# Altium integrated library TI Amplifiers and Linear Special Function Amplifier.IntLib: 708 symbols (part 10 of 47)
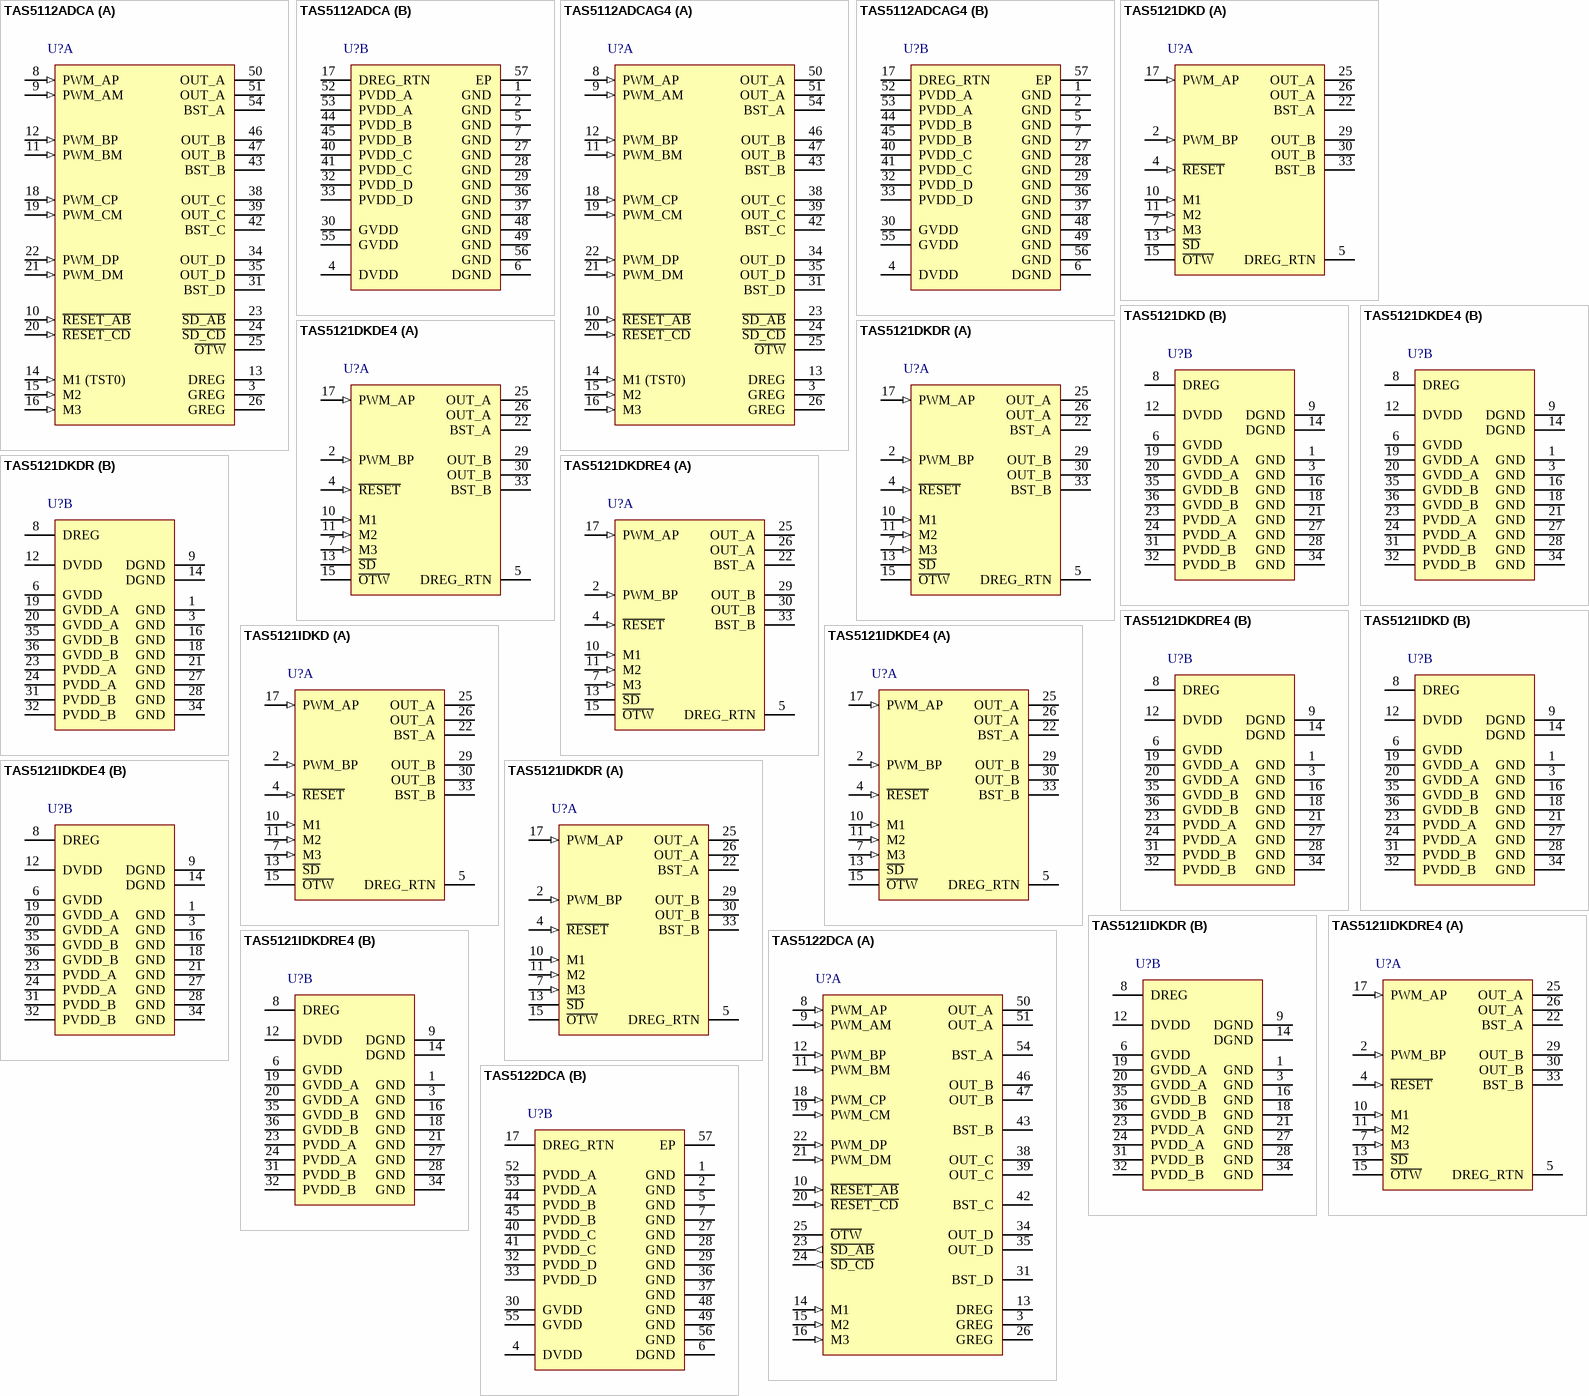
[diagram p48: symbols TAS5112ADCA to TAS5122DCA]

## TAS5121DKDRE4
designator U?
100 W Mono Digital Amplifier Power Stage, 0 to 70 degC, 36-pin SOP (DKD36); Manufacturer: Texas Instruments; PartNumber: TAS5121DKDRE4; Analog Supply Max [V]: 13.2; Analog Supply Min [V]: 10.8; Digital Supply Min [V]: 3; Input Type: PWM; Max. Number of Speaker Outputs: 1; SubFamily: Mid/High-Power Amplifier; DatasheetVersion: SLES086A; PackageVersion: 4204421-2/K, 06/2012; PackageReference: DKD36; PackageDescription: 36-Pin Plastic Small Outline, Body 15.9 x 11 mm, Pitch 0.65 mm; Supplier 1: Digi-Key; Supplier Part Number 1: TAS5121DKDRE4-ND; Supplier 2: Newark; Supplier Part Number 2: 28M7691; Supplier 3: Mouser; Supplier Part Number 3: 595-TAS5121DKDRE4; Mounting Technology: Surface Mount; ComponentLink1Description: Manufacturer URL; ComponentLink1URL: http://www.ti.com/; ComponentLink2Description: Datasheet; ComponentLink2URL: http://www.ti.com/general/docs/lit/getliterature.tsp?genericPartNumber=TAS5121&fileType=pdf; ComponentLink3Description: Package Specification; ComponentLink3URL: http://www.ti.com/lit/ds/symlink/tas5121i.pdf
footprint TI-DKD36_N (SOP, 36-Leads, Body 16x11.1mm, Pitch 0.65mm, IPC Medium Density)
footprint TI-DKD36_L (SOP, 36-Leads, Body 16x11.1mm, Pitch 0.65mm, IPC High Density)
footprint TI-DKD36_M (SOP, 36-Leads, Body 16x11.1mm, Pitch 0.65mm, IPC Low Density)
part A pins: 2 PWM_BP (in) "PWM input signal, half-bridge B", 4 ~{RESET} (in) "Reset signal, active-low", 5 DREG_RTN "Decoupling return pin", 7 M3 (in) "Output-mode selection pin; connect to GND", 10 M1 (in) "Protection-mode selection pin, connect to GND", 11 M2 (in) "Protection-mode selection pin, connect to DREG", 13 ~{SD} (oc) "Shutdown signal for half-bridges A and B (open-drain with internal pullup)", 15 ~{OTW} (hiz) "Overtemperature warning output, open drain with internal pullup resistor, active-low when temperature exceeds 115 degC", 17 PWM_AP (in) "PWM input signal, half-bridge A", 22 BST_A "High-side bootstrap (BST) supply, external resistor and capacitor to OUT_A required", 25 OUT_A (hiz) "Output, half-bridge A", 26 OUT_A (hiz) "Output, half-bridge A", 29 OUT_B (hiz) "Output, half-bridge B", 30 OUT_B (hiz) "Output, half-bridge B", 33 BST_B "High-side bootstrap (BST) supply, external resistor and capacitor to OUT_B required"
part B pins: 1 GND (power) "Power ground, connected to system GND", 3 GND (power) "Power ground, connected to system GND", 6 GVDD (power) "Local GVDD decoupling pin", 8 DREG (power) "Digital supply-voltage regulator-decoupling pin, 1-uF capacitor connected to DREG_RTN", 9 DGND (power) "I/O reference ground", 12 DVDD (power) "I/O reference supply input: 100 ohm to DREG, decoupled to GND, 0.1-uF capacitor connected to GND", 14 DGND (power) "I/O reference ground", 16 GND (power) "Power ground, connected to system GND", 18 GND (power) "Power ground, connected to system GND", 19 GVDD_A (power) "Gate-drive input voltage", 20 GVDD_A (power) "Gate-drive input voltage", 21 GND (power) "Power ground, connected to system GND", 23 PVDD_A (power) "Power supply input for half-bridge A", 24 PVDD_A (power) "Power supply input for half-bridge A", 27 GND (power) "Power ground, connected to system GND", 28 GND (power) "Power ground, connected to system GND", 31 PVDD_B (power) "Power supply input for half-bridge B", 32 PVDD_B (power) "Power supply input for half-bridge B", 34 GND (power) "Power ground, connected to system GND", 35 GVDD_B (power) "Gate-drive input voltage", 36 GVDD_B (power) "Gate-drive input voltage"

## TAS5121IDKD
designator U?
100 W Mono Digital Amplifier Power Stage, -40 to 85 degC, 36-pin SOP (DKD36), Green (RoHS & no Sb/Br); Manufacturer: Texas Instruments; PartNumber: TAS5121IDKD; Analog Supply Max [V]: 13.2; Analog Supply Min [V]: 10.8; Digital Supply Min [V]: 3; Input Type: PWM; Max. Number of Speaker Outputs: 1; SubFamily: Mid/High-Power Amplifier; DatasheetVersion: SLES122; PackageVersion: 4204421-2/K, 06/2012; PackageReference: DKD36; PackageDescription: 36-Pin Plastic Small Outline, Body 15.9 x 11 mm, Pitch 0.65 mm; Supplier 1: Digi-Key; Supplier Part Number 1: 296-17474-5-ND; Supplier 2: Newark; Supplier Part Number 2: 65J6815; Supplier 3: Mouser; Supplier Part Number 3: 595-TAS5121IDKD; Eco-Plan: Green (RoHS & no Sb/Br); Mounting Technology: Surface Mount; ComponentLink1Description: Manufacturer URL; ComponentLink1URL: http://www.ti.com/; ComponentLink2Description: Datasheet; ComponentLink2URL: http://www.ti.com/general/docs/lit/getliterature.tsp?genericPartNumber=TAS5121I&fileType=pdf; ComponentLink3Description: Package Specification; ComponentLink3URL: http://www.ti.com/lit/ds/symlink/tas5121i.pdf
footprint TI-DKD36_N (SOP, 36-Leads, Body 16x11.1mm, Pitch 0.65mm, IPC Medium Density)
footprint TI-DKD36_L (SOP, 36-Leads, Body 16x11.1mm, Pitch 0.65mm, IPC High Density)
footprint TI-DKD36_M (SOP, 36-Leads, Body 16x11.1mm, Pitch 0.65mm, IPC Low Density)
part A pins: 2 PWM_BP (in) "PWM input signal, half-bridge B", 4 ~{RESET} (in) "Reset signal, active-low", 5 DREG_RTN (power) "Decoupling return pin", 7 M3 (in) "Output-mode selection pin; connect to GND", 10 M1 (in) "Protection-mode selection pin, connect to GND", 11 M2 (in) "Protection-mode selection pin, connect to DREG", 13 ~{SD} (oc) "Shutdown signal for half-bridges A and B (open-drain with internal pullup)", 15 ~{OTW} (hiz) "Overtemperature warning output, open-drain with internal pullup, asserted low when temperature exceeds 115 degC", 17 PWM_AP (in) "PWM input signal, half-bridge A", 22 BST_A "High-side bootstrap (BST) supply, external resistor and capacitor to OUT_A required", 25 OUT_A (hiz) "Output, half-bridge A", 26 OUT_A (hiz) "Output, half-bridge A", 29 OUT_B (hiz) "Output, half-bridge B", 30 OUT_B (hiz) "Output, half-bridge B", 33 BST_B "High-side bootstrap (BST) supply, external resistor and capacitor to OUT_B required"
part B pins: 1 GND (power) "Power ground, connected to system GND", 3 GND (power) "Power ground, connected to system GND", 6 GVDD (power) "Local GVDD decoupling pin", 8 DREG (power) "Digital supply-voltage regulator-decoupling pin, 1-uF capacitor connected to DREG_RTN", 9 DGND (power) "I/O reference ground", 12 DVDD (power) "I/O reference supply input: 100 ohm to DREG, decoupled to GND, 0.1-uF capacitor connected to GND", 14 DGND (power) "I/O reference ground", 16 GND (power) "Power ground, connected to system GND", 18 GND (power) "Power ground, connected to system GND", 19 GVDD_A (power) "Gate-drive input voltage", 20 GVDD_A (power) "Gate-drive input voltage", 21 GND (power) "Power ground, connected to system GND", 23 PVDD_A (power) "Power supply input for half-bridge A", 24 PVDD_A (power) "Power supply input for half-bridge A", 27 GND (power) "Power ground, connected to system GND", 28 GND (power) "Power ground, connected to system GND", 31 PVDD_B (power) "Power supply input for half-bridge B", 32 PVDD_B (power) "Power supply input for half-bridge B", 34 GND (power) "Power ground, connected to system GND", 35 GVDD_B (power) "Gate-drive input voltage", 36 GVDD_B (power) "Gate-drive input voltage"

## TAS5121IDKDE4
designator U?
100 W Mono Digital Amplifier Power Stage, -40 to 85 degC, 36-pin SOP (DKD36), Green (RoHS & no Sb/Br); Manufacturer: Texas Instruments; PartNumber: TAS5121IDKDE4; Analog Supply Max [V]: 13.2; Analog Supply Min [V]: 10.8; Digital Supply Min [V]: 3; Input Type: PWM; Max. Number of Speaker Outputs: 1; SubFamily: Mid/High-Power Amplifier; DatasheetVersion: SLES122; PackageVersion: 4204421-2/K, 06/2012; PackageReference: DKD36; PackageDescription: 36-Pin Plastic Small Outline, Body 15.9 x 11 mm, Pitch 0.65 mm; Supplier 1: Digi-Key; Supplier Part Number 1: TAS5121IDKDE4-ND; Supplier 2: Mouser; Supplier Part Number 2: 595-TAS5121IDKDE4; Eco-Plan: Green (RoHS & no Sb/Br); Mounting Technology: Surface Mount; ComponentLink1Description: Manufacturer URL; ComponentLink1URL: http://www.ti.com/; ComponentLink2Description: Datasheet; ComponentLink2URL: http://www.ti.com/general/docs/lit/getliterature.tsp?genericPartNumber=TAS5121I&fileType=pdf; ComponentLink3Description: Package Specification; ComponentLink3URL: http://www.ti.com/lit/ds/symlink/tas5121i.pdf
footprint TI-DKD36_N (SOP, 36-Leads, Body 16x11.1mm, Pitch 0.65mm, IPC Medium Density)
footprint TI-DKD36_L (SOP, 36-Leads, Body 16x11.1mm, Pitch 0.65mm, IPC High Density)
footprint TI-DKD36_M (SOP, 36-Leads, Body 16x11.1mm, Pitch 0.65mm, IPC Low Density)
part A pins: 2 PWM_BP (in) "PWM input signal, half-bridge B", 4 ~{RESET} (in) "Reset signal, active-low", 5 DREG_RTN (power) "Decoupling return pin", 7 M3 (in) "Output-mode selection pin; connect to GND", 10 M1 (in) "Protection-mode selection pin, connect to GND", 11 M2 (in) "Protection-mode selection pin, connect to DREG", 13 ~{SD} (oc) "Shutdown signal for half-bridges A and B (open-drain with internal pullup)", 15 ~{OTW} (hiz) "Overtemperature warning output, open-drain with internal pullup, asserted low when temperature exceeds 115 degC", 17 PWM_AP (in) "PWM input signal, half-bridge A", 22 BST_A "High-side bootstrap (BST) supply, external resistor and capacitor to OUT_A required", 25 OUT_A (hiz) "Output, half-bridge A", 26 OUT_A (hiz) "Output, half-bridge A", 29 OUT_B (hiz) "Output, half-bridge B", 30 OUT_B (hiz) "Output, half-bridge B", 33 BST_B "High-side bootstrap (BST) supply, external resistor and capacitor to OUT_B required"
part B pins: 1 GND (power) "Power ground, connected to system GND", 3 GND (power) "Power ground, connected to system GND", 6 GVDD (power) "Local GVDD decoupling pin", 8 DREG (power) "Digital supply-voltage regulator-decoupling pin, 1-uF capacitor connected to DREG_RTN", 9 DGND (power) "I/O reference ground", 12 DVDD (power) "I/O reference supply input: 100 ohm to DREG, decoupled to GND, 0.1-uF capacitor connected to GND", 14 DGND (power) "I/O reference ground", 16 GND (power) "Power ground, connected to system GND", 18 GND (power) "Power ground, connected to system GND", 19 GVDD_A (power) "Gate-drive input voltage", 20 GVDD_A (power) "Gate-drive input voltage", 21 GND (power) "Power ground, connected to system GND", 23 PVDD_A (power) "Power supply input for half-bridge A", 24 PVDD_A (power) "Power supply input for half-bridge A", 27 GND (power) "Power ground, connected to system GND", 28 GND (power) "Power ground, connected to system GND", 31 PVDD_B (power) "Power supply input for half-bridge B", 32 PVDD_B (power) "Power supply input for half-bridge B", 34 GND (power) "Power ground, connected to system GND", 35 GVDD_B (power) "Gate-drive input voltage", 36 GVDD_B (power) "Gate-drive input voltage"

## TAS5121IDKDR
designator U?
100 W Mono Digital Amplifier Power Stage, -40 to 85 degC, 36-pin SOP (DKD36), Green (RoHS & no Sb/Br); Manufacturer: Texas Instruments; PartNumber: TAS5121IDKDR; Analog Supply Max [V]: 13.2; Analog Supply Min [V]: 10.8; Digital Supply Min [V]: 3; Input Type: PWM; Max. Number of Speaker Outputs: 1; SubFamily: Mid/High-Power Amplifier; DatasheetVersion: SLES122; PackageVersion: 4204421-2/K, 06/2012; PackageReference: DKD36; PackageDescription: 36-Pin Plastic Small Outline, Body 15.9 x 11 mm, Pitch 0.65 mm; Supplier 1: Digi-Key; Supplier Part Number 1: TAS5121IDKDR-ND; Supplier 2: Mouser; Supplier Part Number 2: 595-TAS5121IDKDR; Eco-Plan: Green (RoHS & no Sb/Br); Mounting Technology: Surface Mount; ComponentLink1Description: Manufacturer URL; ComponentLink1URL: http://www.ti.com/; ComponentLink2Description: Datasheet; ComponentLink2URL: http://www.ti.com/general/docs/lit/getliterature.tsp?genericPartNumber=TAS5121I&fileType=pdf; ComponentLink3Description: Package Specification; ComponentLink3URL: http://www.ti.com/lit/ds/symlink/tas5121i.pdf
footprint TI-DKD36_N (SOP, 36-Leads, Body 16x11.1mm, Pitch 0.65mm, IPC Medium Density)
footprint TI-DKD36_L (SOP, 36-Leads, Body 16x11.1mm, Pitch 0.65mm, IPC High Density)
footprint TI-DKD36_M (SOP, 36-Leads, Body 16x11.1mm, Pitch 0.65mm, IPC Low Density)
part A pins: 2 PWM_BP (in) "PWM input signal, half-bridge B", 4 ~{RESET} (in) "Reset signal, active-low", 5 DREG_RTN (power) "Decoupling return pin", 7 M3 (in) "Output-mode selection pin; connect to GND", 10 M1 (in) "Protection-mode selection pin, connect to GND", 11 M2 (in) "Protection-mode selection pin, connect to DREG", 13 ~{SD} (oc) "Shutdown signal for half-bridges A and B (open-drain with internal pullup)", 15 ~{OTW} (hiz) "Overtemperature warning output, open-drain with internal pullup, asserted low when temperature exceeds 115 degC", 17 PWM_AP (in) "PWM input signal, half-bridge A", 22 BST_A "High-side bootstrap (BST) supply, external resistor and capacitor to OUT_A required", 25 OUT_A (hiz) "Output, half-bridge A", 26 OUT_A (hiz) "Output, half-bridge A", 29 OUT_B (hiz) "Output, half-bridge B", 30 OUT_B (hiz) "Output, half-bridge B", 33 BST_B "High-side bootstrap (BST) supply, external resistor and capacitor to OUT_B required"
part B pins: 1 GND (power) "Power ground, connected to system GND", 3 GND (power) "Power ground, connected to system GND", 6 GVDD (power) "Local GVDD decoupling pin", 8 DREG (power) "Digital supply-voltage regulator-decoupling pin, 1-uF capacitor connected to DREG_RTN", 9 DGND (power) "I/O reference ground", 12 DVDD (power) "I/O reference supply input: 100 ohm to DREG, decoupled to GND, 0.1-uF capacitor connected to GND", 14 DGND (power) "I/O reference ground", 16 GND (power) "Power ground, connected to system GND", 18 GND (power) "Power ground, connected to system GND", 19 GVDD_A (power) "Gate-drive input voltage", 20 GVDD_A (power) "Gate-drive input voltage", 21 GND (power) "Power ground, connected to system GND", 23 PVDD_A (power) "Power supply input for half-bridge A", 24 PVDD_A (power) "Power supply input for half-bridge A", 27 GND (power) "Power ground, connected to system GND", 28 GND (power) "Power ground, connected to system GND", 31 PVDD_B (power) "Power supply input for half-bridge B", 32 PVDD_B (power) "Power supply input for half-bridge B", 34 GND (power) "Power ground, connected to system GND", 35 GVDD_B (power) "Gate-drive input voltage", 36 GVDD_B (power) "Gate-drive input voltage"

## TAS5121IDKDRE4
designator U?
100 W Mono Digital Amplifier Power Stage, -40 to 85 degC, 36-pin SOP (DKD36), Green (RoHS & no Sb/Br); Manufacturer: Texas Instruments; PartNumber: TAS5121IDKDRE4; Analog Supply Max [V]: 13.2; Analog Supply Min [V]: 10.8; Digital Supply Min [V]: 3; Input Type: PWM; Max. Number of Speaker Outputs: 1; SubFamily: Mid/High-Power Amplifier; DatasheetVersion: SLES122; PackageVersion: 4204421-2/K, 06/2012; PackageReference: DKD36; PackageDescription: 36-Pin Plastic Small Outline, Body 15.9 x 11 mm, Pitch 0.65 mm; Supplier 1: Digi-Key; Supplier Part Number 1: TAS5121IDKDRE4-ND; Supplier 2: Mouser; Supplier Part Number 2: 595-TAS5121IDKDRE4; Eco-Plan: Green (RoHS & no Sb/Br); Mounting Technology: Surface Mount; ComponentLink1Description: Manufacturer URL; ComponentLink1URL: http://www.ti.com/; ComponentLink2Description: Datasheet; ComponentLink2URL: http://www.ti.com/general/docs/lit/getliterature.tsp?genericPartNumber=TAS5121I&fileType=pdf; ComponentLink3Description: Package Specification; ComponentLink3URL: http://www.ti.com/lit/ds/symlink/tas5121i.pdf
footprint TI-DKD36_N (SOP, 36-Leads, Body 16x11.1mm, Pitch 0.65mm, IPC Medium Density)
footprint TI-DKD36_L (SOP, 36-Leads, Body 16x11.1mm, Pitch 0.65mm, IPC High Density)
footprint TI-DKD36_M (SOP, 36-Leads, Body 16x11.1mm, Pitch 0.65mm, IPC Low Density)
part A pins: 2 PWM_BP (in) "PWM input signal, half-bridge B", 4 ~{RESET} (in) "Reset signal, active-low", 5 DREG_RTN (power) "Decoupling return pin", 7 M3 (in) "Output-mode selection pin; connect to GND", 10 M1 (in) "Protection-mode selection pin, connect to GND", 11 M2 (in) "Protection-mode selection pin, connect to DREG", 13 ~{SD} (oc) "Shutdown signal for half-bridges A and B (open-drain with internal pullup)", 15 ~{OTW} (hiz) "Overtemperature warning output, open-drain with internal pullup, asserted low when temperature exceeds 115 degC", 17 PWM_AP (in) "PWM input signal, half-bridge A", 22 BST_A "High-side bootstrap (BST) supply, external resistor and capacitor to OUT_A required", 25 OUT_A (hiz) "Output, half-bridge A", 26 OUT_A (hiz) "Output, half-bridge A", 29 OUT_B (hiz) "Output, half-bridge B", 30 OUT_B (hiz) "Output, half-bridge B", 33 BST_B "High-side bootstrap (BST) supply, external resistor and capacitor to OUT_B required"
part B pins: 1 GND (power) "Power ground, connected to system GND", 3 GND (power) "Power ground, connected to system GND", 6 GVDD (power) "Local GVDD decoupling pin", 8 DREG (power) "Digital supply-voltage regulator-decoupling pin, 1-uF capacitor connected to DREG_RTN", 9 DGND (power) "I/O reference ground", 12 DVDD (power) "I/O reference supply input: 100 ohm to DREG, decoupled to GND, 0.1-uF capacitor connected to GND", 14 DGND (power) "I/O reference ground", 16 GND (power) "Power ground, connected to system GND", 18 GND (power) "Power ground, connected to system GND", 19 GVDD_A (power) "Gate-drive input voltage", 20 GVDD_A (power) "Gate-drive input voltage", 21 GND (power) "Power ground, connected to system GND", 23 PVDD_A (power) "Power supply input for half-bridge A", 24 PVDD_A (power) "Power supply input for half-bridge A", 27 GND (power) "Power ground, connected to system GND", 28 GND (power) "Power ground, connected to system GND", 31 PVDD_B (power) "Power supply input for half-bridge B", 32 PVDD_B (power) "Power supply input for half-bridge B", 34 GND (power) "Power ground, connected to system GND", 35 GVDD_B (power) "Gate-drive input voltage", 36 GVDD_B (power) "Gate-drive input voltage"

## TAS5122DCA
designator U?
30 W Stereo Digital Amplifier Power Stage, 0 to 70 degC, 56-pin SOP (DCA56), Green (RoHS & no Sb/Br); Manufacturer: Texas Instruments; PartNumber: TAS5122DCA; Analog Supply Max [V]: 25.5; Analog Supply Min [V]: 16; Digital Supply Min [V]: 3; Input Type: PWM; Max. Number of Speaker Outputs: 2; SubFamily: Mid/High-Power Amplifier; DatasheetVersion: SLES088E; PackageVersion: 4073259-3/E, 07/2011; PackageReference: DCA56-7700X3425TP; PackageDescription: 56-Pin Plastic Small Outline, Body 14 x 6.1 mm, Pitch 0.5 mm; Supplier 1: Digi-Key; Supplier Part Number 1: 296-18835-5-ND; Supplier 2: Newark; Supplier Part Number 2: 87H2739; Supplier 3: Mouser; Supplier Part Number 3: 595-TAS5122DCA; Eco-Plan: Green (RoHS & no Sb/Br); Mounting Technology: Surface Mount; Code_JEDEC: MO-153; ComponentLink1Description: Manufacturer URL; ComponentLink1URL: http://www.ti.com/; ComponentLink2Description: Datasheet; ComponentLink2URL: http://www.ti.com/general/docs/lit/getliterature.tsp?genericPartNumber=TAS5122&fileType=pdf; ComponentLink3Description: Package Specification; ComponentLink3URL: http://www.ti.com/litv/pdf/mpdi001b
footprint TI-DCA56-7700X3425TP_N (SOP, 56-Leads, Body 14x6.1mm, Pitch 0.5mm, Thermal Pad 8.2x3.9mm, IPC Medium Density)
footprint TI-DCA56-7700X3425TP_L (SOP, 56-Leads, Body 14x6.1mm, Pitch 0.5mm, Thermal Pad 8.2x3.9mm, IPC High Density)
footprint TI-DCA56-7700X3425TP_M (SOP, 56-Leads, Body 14x6.1mm, Pitch 0.5mm, Thermal Pad 8.2x3.9mm, IPC Low Density)
part A pins: 3 GREG "Gate drive voltage regulator decoupling pin, capacitor to GND", 8 PWM_AP (in) "Input signal (positive), half-bridge A", 9 PWM_AM (in) "Input signal (negative), half-bridge A", 10 ~{RESET_AB} (in) "Reset signal, active low", 11 PWM_BM (in) "Input signal (negative), half-bridge B", 12 PWM_BP (in) "Input signal (positive), half-bridge B", 13 DREG "Digital supply voltage regulator decoupling pin, capacitor connected to GND", 14 M1 (in) "Mode selection pin", 15 M2 (in) "Mode selection pin", 16 M3 (in) "Mode selection pin", 18 PWM_CP (in) "Input signal (positive), half-bridge C", 19 PWM_CM (in) "Input signal (negative), half-bridge C", 20 ~{RESET_CD} (in) "Reset signal, active low", 21 PWM_DM (in) "Input signal (negative), half-bridge D", 22 PWM_DP (in) "Input signal (positive), half-bridge D", 23 ~{SD_AB} (out) "Shutdown signal for half-bridges A and B, active-low", 24 ~{SD_CD} (out) "Shutdown signal for half-bridges C and D, active-low", 25 ~{OTW} (oc) "Overtemperature warning output, open drain with internal pullup resistor", 26 GREG "Gate drive voltage regulator decoupling pin, capacitor to GND", 31 BST_D "HS bootstrap supply (BST), external capacitor to OUT_D required", 34 OUT_D (hiz) "Output, half-bridge D", 35 OUT_D (hiz) "Output, half-bridge D", 38 OUT_C (hiz) "Output, half-bridge C", 39 OUT_C (hiz) "Output, half-bridge C", 42 BST_C "HS bootstrap supply (BST), external capacitor to OUT_C required", 43 BST_B "HS bootstrap supply (BST), external capacitor to OUT_B required", 46 OUT_B (hiz) "Output, half-bridge B", 47 OUT_B (hiz) "Output, half-bridge B", 50 OUT_A (hiz) "Output, half-bridge A", 51 OUT_A (hiz) "Output, half-bridge A", 54 BST_A "HS bootstrap supply (BST), external capacitor to OUT_A required"
part B pins: 1 GND (power) "Power ground", 2 GND (power) "Power ground", 4 DVDD (power) "I/O reference supply input (3.3 V)", 5 GND (power) "Power ground", 6 DGND (power) "Digital I/O reference ground", 7 GND (power) "Power ground", 17 DREG_RTN (power) "Digital supply voltage regulator decoupling return pin", 27 GND (power) "Power ground", 28 GND (power) "Power ground", 29 GND (power) "Power ground", 30 GVDD (power) "Voltage supply to on-chip gate drive and digital supply voltage regulators", 32 PVDD_D (power) "Power supply input for half-bridge D", 33 PVDD_D (power) "Power supply input for half-bridge D", 36 GND (power) "Power ground", 37 GND (power) "Power ground", 40 PVDD_C (power) "Power supply input for half-bridge C", 41 PVDD_C (power) "Power supply input for half-bridge C", 44 PVDD_B (power) "Power supply input for half-bridge B", 45 PVDD_B (power) "Power supply input for half-bridge B", 48 GND (power) "Power ground", 49 GND (power) "Power ground", 52 PVDD_A (power) "Power supply input for half-bridge A", 53 PVDD_A (power) "Power supply input for half-bridge A", 55 GVDD (power) "Voltage supply to on-chip gate drive and digital supply voltage regulators", 56 GND (power) "Power ground", 57 EP

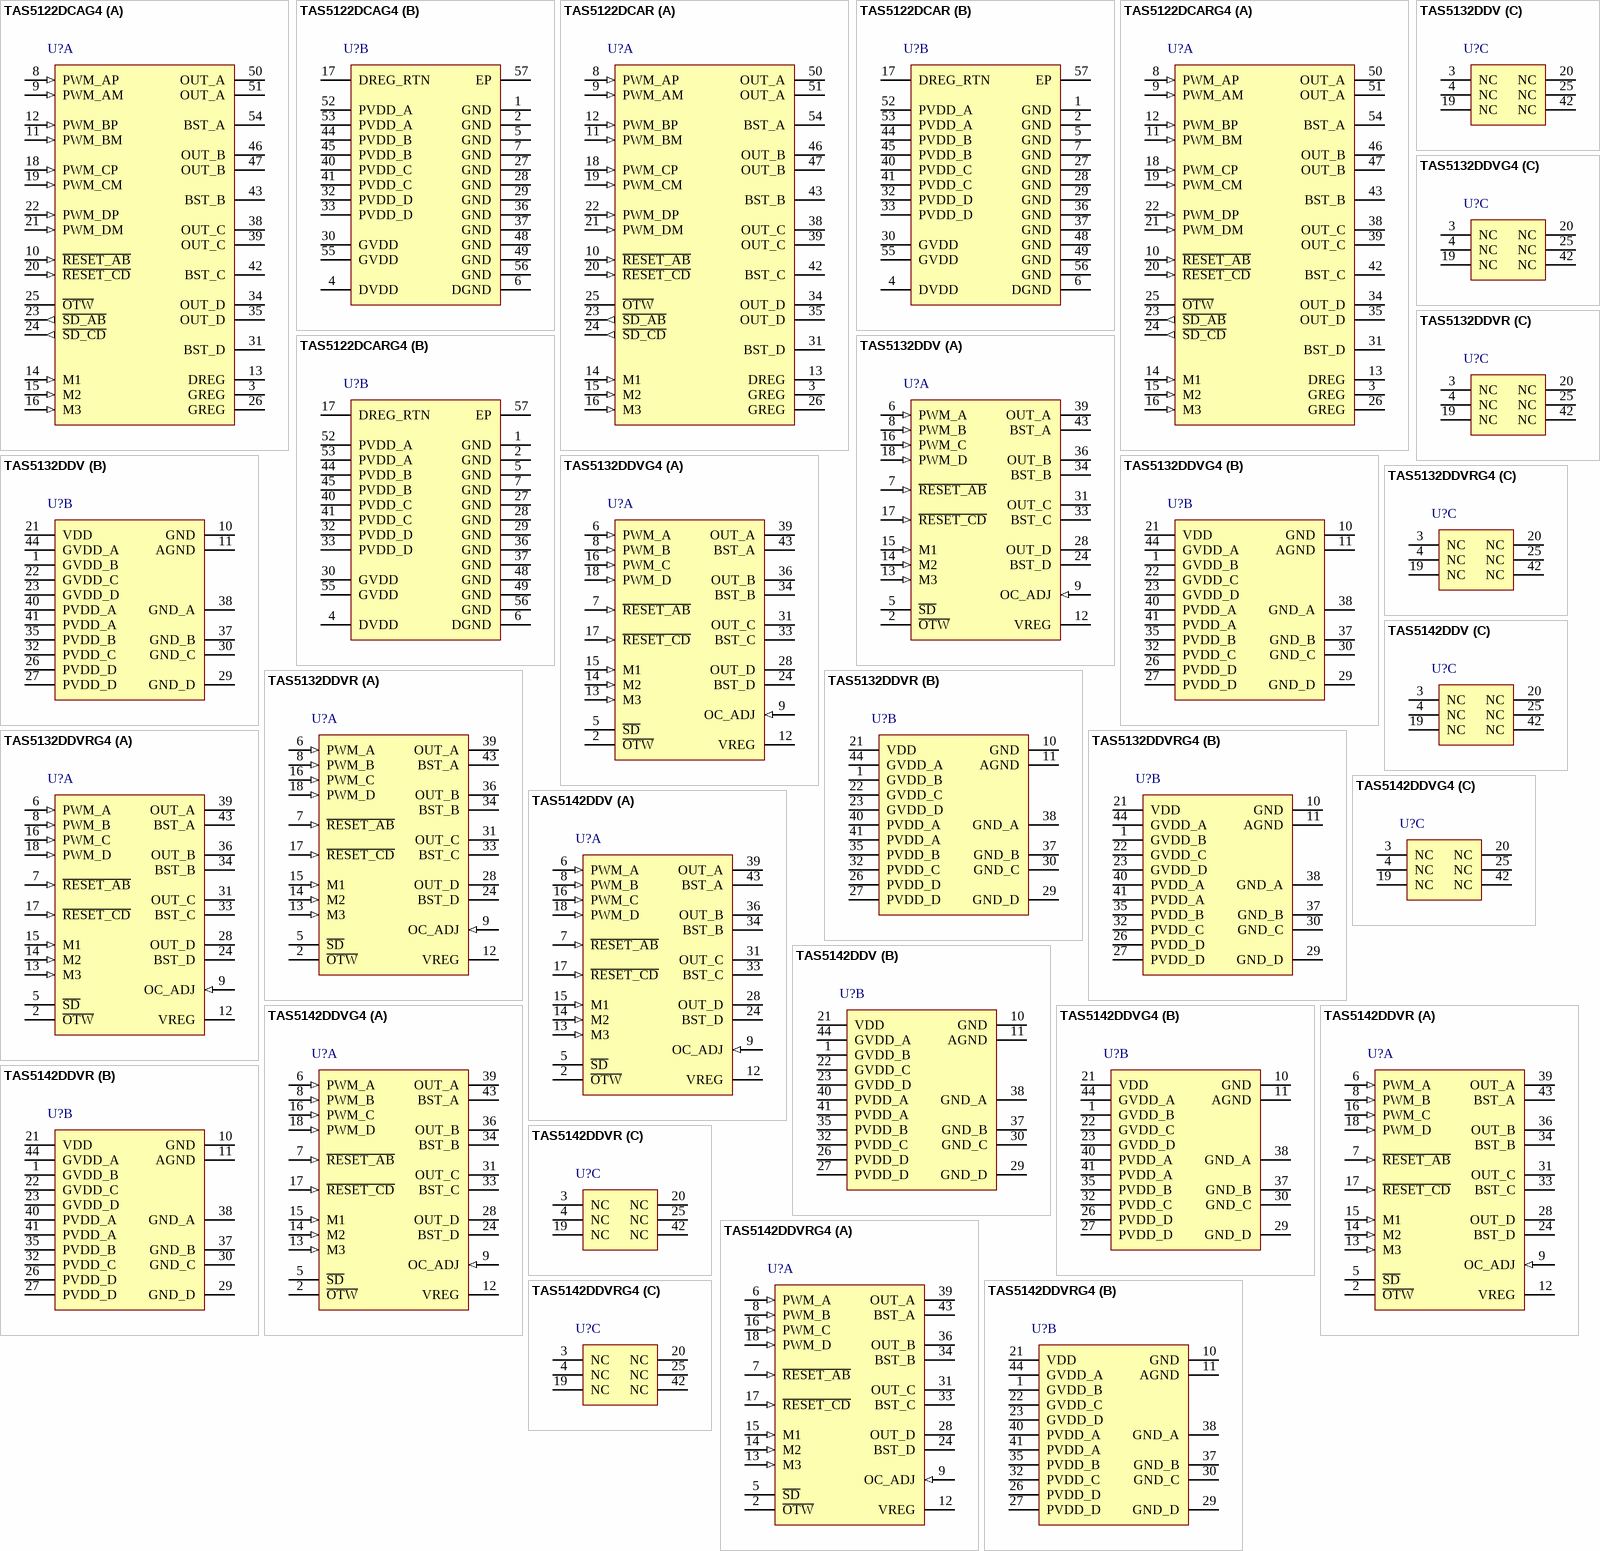
[diagram p9: symbols TAS5122DCAG4 to TAS5142DDVRG4]

## TAS5122DCAG4
designator U?
30 W Stereo Digital Amplifier Power Stage, 0 to 70 degC, 56-pin SOP (DCA56), Green (RoHS & no Sb/Br); Manufacturer: Texas Instruments; PartNumber: TAS5122DCAG4; Analog Supply Max [V]: 25.5; Analog Supply Min [V]: 16; Digital Supply Min [V]: 3; Input Type: PWM; Max. Number of Speaker Outputs: 2; SubFamily: Mid/High-Power Amplifier; DatasheetVersion: SLES088E; PackageVersion: 4073259-3/E, 07/2011; PackageReference: DCA56-7700X3425TP; PackageDescription: 56-Pin Plastic Small Outline, Body 14 x 6.1 mm, Pitch 0.5 mm; Supplier 1: Digi-Key; Supplier Part Number 1: TAS5122DCAG4-ND; Supplier 2: Mouser; Supplier Part Number 2: 595-TAS5122DCAG4; Eco-Plan: Green (RoHS & no Sb/Br); Mounting Technology: Surface Mount; Code_JEDEC: MO-153; ComponentLink1Description: Manufacturer URL; ComponentLink1URL: http://www.ti.com/; ComponentLink2Description: Datasheet; ComponentLink2URL: http://www.ti.com/general/docs/lit/getliterature.tsp?genericPartNumber=TAS5122&fileType=pdf; ComponentLink3Description: Package Specification; ComponentLink3URL: http://www.ti.com/litv/pdf/mpdi001b
footprint TI-DCA56-7700X3425TP_N (SOP, 56-Leads, Body 14x6.1mm, Pitch 0.5mm, Thermal Pad 8.2x3.9mm, IPC Medium Density)
footprint TI-DCA56-7700X3425TP_L (SOP, 56-Leads, Body 14x6.1mm, Pitch 0.5mm, Thermal Pad 8.2x3.9mm, IPC High Density)
footprint TI-DCA56-7700X3425TP_M (SOP, 56-Leads, Body 14x6.1mm, Pitch 0.5mm, Thermal Pad 8.2x3.9mm, IPC Low Density)
part A pins: 3 GREG "Gate drive voltage regulator decoupling pin, capacitor to GND", 8 PWM_AP (in) "Input signal (positive), half-bridge A", 9 PWM_AM (in) "Input signal (negative), half-bridge A", 10 ~{RESET_AB} (in) "Reset signal, active low", 11 PWM_BM (in) "Input signal (negative), half-bridge B", 12 PWM_BP (in) "Input signal (positive), half-bridge B", 13 DREG "Digital supply voltage regulator decoupling pin, capacitor connected to GND", 14 M1 (in) "Mode selection pin", 15 M2 (in) "Mode selection pin", 16 M3 (in) "Mode selection pin", 18 PWM_CP (in) "Input signal (positive), half-bridge C", 19 PWM_CM (in) "Input signal (negative), half-bridge C", 20 ~{RESET_CD} (in) "Reset signal, active low", 21 PWM_DM (in) "Input signal (negative), half-bridge D", 22 PWM_DP (in) "Input signal (positive), half-bridge D", 23 ~{SD_AB} (out) "Shutdown signal for half-bridges A and B, active-low", 24 ~{SD_CD} (out) "Shutdown signal for half-bridges C and D, active-low", 25 ~{OTW} (oc) "Overtemperature warning output, open drain with internal pullup resistor", 26 GREG "Gate drive voltage regulator decoupling pin, capacitor to GND", 31 BST_D "HS bootstrap supply (BST), external capacitor to OUT_D required", 34 OUT_D (hiz) "Output, half-bridge D", 35 OUT_D (hiz) "Output, half-bridge D", 38 OUT_C (hiz) "Output, half-bridge C", 39 OUT_C (hiz) "Output, half-bridge C", 42 BST_C "HS bootstrap supply (BST), external capacitor to OUT_C required", 43 BST_B "HS bootstrap supply (BST), external capacitor to OUT_B required", 46 OUT_B (hiz) "Output, half-bridge B", 47 OUT_B (hiz) "Output, half-bridge B", 50 OUT_A (hiz) "Output, half-bridge A", 51 OUT_A (hiz) "Output, half-bridge A", 54 BST_A "HS bootstrap supply (BST), external capacitor to OUT_A required"
part B pins: 1 GND (power) "Power ground", 2 GND (power) "Power ground", 4 DVDD (power) "I/O reference supply input (3.3 V)", 5 GND (power) "Power ground", 6 DGND (power) "Digital I/O reference ground", 7 GND (power) "Power ground", 17 DREG_RTN (power) "Digital supply voltage regulator decoupling return pin", 27 GND (power) "Power ground", 28 GND (power) "Power ground", 29 GND (power) "Power ground", 30 GVDD (power) "Voltage supply to on-chip gate drive and digital supply voltage regulators", 32 PVDD_D (power) "Power supply input for half-bridge D", 33 PVDD_D (power) "Power supply input for half-bridge D", 36 GND (power) "Power ground", 37 GND (power) "Power ground", 40 PVDD_C (power) "Power supply input for half-bridge C", 41 PVDD_C (power) "Power supply input for half-bridge C", 44 PVDD_B (power) "Power supply input for half-bridge B", 45 PVDD_B (power) "Power supply input for half-bridge B", 48 GND (power) "Power ground", 49 GND (power) "Power ground", 52 PVDD_A (power) "Power supply input for half-bridge A", 53 PVDD_A (power) "Power supply input for half-bridge A", 55 GVDD (power) "Voltage supply to on-chip gate drive and digital supply voltage regulators", 56 GND (power) "Power ground", 57 EP

## TAS5122DCAR
designator U?
30 W Stereo Digital Amplifier Power Stage, 0 to 70 degC, 56-pin SOP (DCA56), Green (RoHS & no Sb/Br); Manufacturer: Texas Instruments; PartNumber: TAS5122DCAR; Analog Supply Max [V]: 25.5; Analog Supply Min [V]: 16; Digital Supply Min [V]: 3; Input Type: PWM; Max. Number of Speaker Outputs: 2; SubFamily: Mid/High-Power Amplifier; DatasheetVersion: SLES088E; PackageVersion: 4073259-3/E, 07/2011; PackageReference: DCA56-7700X3425TP; PackageDescription: 56-Pin Plastic Small Outline, Body 14 x 6.1 mm, Pitch 0.5 mm; Supplier 1: Digi-Key; Supplier Part Number 1: TAS5122DCAR-ND; Supplier 2: Newark; Supplier Part Number 2: 87H2740; Supplier 3: Mouser; Supplier Part Number 3: 595-TAS5122DCAR; Eco-Plan: Green (RoHS & no Sb/Br); Mounting Technology: Surface Mount; Code_JEDEC: MO-153; ComponentLink1Description: Manufacturer URL; ComponentLink1URL: http://www.ti.com/; ComponentLink2Description: Datasheet; ComponentLink2URL: http://www.ti.com/general/docs/lit/getliterature.tsp?genericPartNumber=TAS5122&fileType=pdf; ComponentLink3Description: Package Specification; ComponentLink3URL: http://www.ti.com/litv/pdf/mpdi001b
footprint TI-DCA56-7700X3425TP_N (SOP, 56-Leads, Body 14x6.1mm, Pitch 0.5mm, Thermal Pad 8.2x3.9mm, IPC Medium Density)
footprint TI-DCA56-7700X3425TP_L (SOP, 56-Leads, Body 14x6.1mm, Pitch 0.5mm, Thermal Pad 8.2x3.9mm, IPC High Density)
footprint TI-DCA56-7700X3425TP_M (SOP, 56-Leads, Body 14x6.1mm, Pitch 0.5mm, Thermal Pad 8.2x3.9mm, IPC Low Density)
part A pins: 3 GREG "Gate drive voltage regulator decoupling pin, capacitor to GND", 8 PWM_AP (in) "Input signal (positive), half-bridge A", 9 PWM_AM (in) "Input signal (negative), half-bridge A", 10 ~{RESET_AB} (in) "Reset signal, active low", 11 PWM_BM (in) "Input signal (negative), half-bridge B", 12 PWM_BP (in) "Input signal (positive), half-bridge B", 13 DREG "Digital supply voltage regulator decoupling pin, capacitor connected to GND", 14 M1 (in) "Mode selection pin", 15 M2 (in) "Mode selection pin", 16 M3 (in) "Mode selection pin", 18 PWM_CP (in) "Input signal (positive), half-bridge C", 19 PWM_CM (in) "Input signal (negative), half-bridge C", 20 ~{RESET_CD} (in) "Reset signal, active low", 21 PWM_DM (in) "Input signal (negative), half-bridge D", 22 PWM_DP (in) "Input signal (positive), half-bridge D", 23 ~{SD_AB} (out) "Shutdown signal for half-bridges A and B, active-low", 24 ~{SD_CD} (out) "Shutdown signal for half-bridges C and D, active-low", 25 ~{OTW} (oc) "Overtemperature warning output, open drain with internal pullup resistor", 26 GREG "Gate drive voltage regulator decoupling pin, capacitor to GND", 31 BST_D "HS bootstrap supply (BST), external capacitor to OUT_D required", 34 OUT_D (hiz) "Output, half-bridge D", 35 OUT_D (hiz) "Output, half-bridge D", 38 OUT_C (hiz) "Output, half-bridge C", 39 OUT_C (hiz) "Output, half-bridge C", 42 BST_C "HS bootstrap supply (BST), external capacitor to OUT_C required", 43 BST_B "HS bootstrap supply (BST), external capacitor to OUT_B required", 46 OUT_B (hiz) "Output, half-bridge B", 47 OUT_B (hiz) "Output, half-bridge B", 50 OUT_A (hiz) "Output, half-bridge A", 51 OUT_A (hiz) "Output, half-bridge A", 54 BST_A "HS bootstrap supply (BST), external capacitor to OUT_A required"
part B pins: 1 GND (power) "Power ground", 2 GND (power) "Power ground", 4 DVDD (power) "I/O reference supply input (3.3 V)", 5 GND (power) "Power ground", 6 DGND (power) "Digital I/O reference ground", 7 GND (power) "Power ground", 17 DREG_RTN (power) "Digital supply voltage regulator decoupling return pin", 27 GND (power) "Power ground", 28 GND (power) "Power ground", 29 GND (power) "Power ground", 30 GVDD (power) "Voltage supply to on-chip gate drive and digital supply voltage regulators", 32 PVDD_D (power) "Power supply input for half-bridge D", 33 PVDD_D (power) "Power supply input for half-bridge D", 36 GND (power) "Power ground", 37 GND (power) "Power ground", 40 PVDD_C (power) "Power supply input for half-bridge C", 41 PVDD_C (power) "Power supply input for half-bridge C", 44 PVDD_B (power) "Power supply input for half-bridge B", 45 PVDD_B (power) "Power supply input for half-bridge B", 48 GND (power) "Power ground", 49 GND (power) "Power ground", 52 PVDD_A (power) "Power supply input for half-bridge A", 53 PVDD_A (power) "Power supply input for half-bridge A", 55 GVDD (power) "Voltage supply to on-chip gate drive and digital supply voltage regulators", 56 GND (power) "Power ground", 57 EP

## TAS5122DCARG4
designator U?
30 W Stereo Digital Amplifier Power Stage, 0 to 70 degC, 56-pin SOP (DCA56), Green (RoHS & no Sb/Br); Manufacturer: Texas Instruments; PartNumber: TAS5122DCARG4; Analog Supply Max [V]: 25.5; Analog Supply Min [V]: 16; Digital Supply Min [V]: 3; Input Type: PWM; Max. Number of Speaker Outputs: 2; SubFamily: Mid/High-Power Amplifier; DatasheetVersion: SLES088E; PackageVersion: 4073259-3/E, 07/2011; PackageReference: DCA56-7700X3425TP; PackageDescription: 56-Pin Plastic Small Outline, Body 14 x 6.1 mm, Pitch 0.5 mm; Supplier 1: Digi-Key; Supplier Part Number 1: TAS5122DCARG4-ND; Supplier 2: Newark; Supplier Part Number 2: 71J7896; Supplier 3: Mouser; Supplier Part Number 3: 595-TAS5122DCARG4; Eco-Plan: Green (RoHS & no Sb/Br); Mounting Technology: Surface Mount; Code_JEDEC: MO-153; ComponentLink1Description: Manufacturer URL; ComponentLink1URL: http://www.ti.com/; ComponentLink2Description: Datasheet; ComponentLink2URL: http://www.ti.com/general/docs/lit/getliterature.tsp?genericPartNumber=TAS5122&fileType=pdf; ComponentLink3Description: Package Specification; ComponentLink3URL: http://www.ti.com/litv/pdf/mpdi001b
footprint TI-DCA56-7700X3425TP_N (SOP, 56-Leads, Body 14x6.1mm, Pitch 0.5mm, Thermal Pad 8.2x3.9mm, IPC Medium Density)
footprint TI-DCA56-7700X3425TP_L (SOP, 56-Leads, Body 14x6.1mm, Pitch 0.5mm, Thermal Pad 8.2x3.9mm, IPC High Density)
footprint TI-DCA56-7700X3425TP_M (SOP, 56-Leads, Body 14x6.1mm, Pitch 0.5mm, Thermal Pad 8.2x3.9mm, IPC Low Density)
part A pins: 3 GREG "Gate drive voltage regulator decoupling pin, capacitor to GND", 8 PWM_AP (in) "Input signal (positive), half-bridge A", 9 PWM_AM (in) "Input signal (negative), half-bridge A", 10 ~{RESET_AB} (in) "Reset signal, active low", 11 PWM_BM (in) "Input signal (negative), half-bridge B", 12 PWM_BP (in) "Input signal (positive), half-bridge B", 13 DREG "Digital supply voltage regulator decoupling pin, capacitor connected to GND", 14 M1 (in) "Mode selection pin", 15 M2 (in) "Mode selection pin", 16 M3 (in) "Mode selection pin", 18 PWM_CP (in) "Input signal (positive), half-bridge C", 19 PWM_CM (in) "Input signal (negative), half-bridge C", 20 ~{RESET_CD} (in) "Reset signal, active low", 21 PWM_DM (in) "Input signal (negative), half-bridge D", 22 PWM_DP (in) "Input signal (positive), half-bridge D", 23 ~{SD_AB} (out) "Shutdown signal for half-bridges A and B, active-low", 24 ~{SD_CD} (out) "Shutdown signal for half-bridges C and D, active-low", 25 ~{OTW} (oc) "Overtemperature warning output, open drain with internal pullup resistor", 26 GREG "Gate drive voltage regulator decoupling pin, capacitor to GND", 31 BST_D "HS bootstrap supply (BST), external capacitor to OUT_D required", 34 OUT_D (hiz) "Output, half-bridge D", 35 OUT_D (hiz) "Output, half-bridge D", 38 OUT_C (hiz) "Output, half-bridge C", 39 OUT_C (hiz) "Output, half-bridge C", 42 BST_C "HS bootstrap supply (BST), external capacitor to OUT_C required", 43 BST_B "HS bootstrap supply (BST), external capacitor to OUT_B required", 46 OUT_B (hiz) "Output, half-bridge B", 47 OUT_B (hiz) "Output, half-bridge B", 50 OUT_A (hiz) "Output, half-bridge A", 51 OUT_A (hiz) "Output, half-bridge A", 54 BST_A "HS bootstrap supply (BST), external capacitor to OUT_A required"
part B pins: 1 GND (power) "Power ground", 2 GND (power) "Power ground", 4 DVDD (power) "I/O reference supply input (3.3 V)", 5 GND (power) "Power ground", 6 DGND (power) "Digital I/O reference ground", 7 GND (power) "Power ground", 17 DREG_RTN (power) "Digital supply voltage regulator decoupling return pin", 27 GND (power) "Power ground", 28 GND (power) "Power ground", 29 GND (power) "Power ground", 30 GVDD (power) "Voltage supply to on-chip gate drive and digital supply voltage regulators", 32 PVDD_D (power) "Power supply input for half-bridge D", 33 PVDD_D (power) "Power supply input for half-bridge D", 36 GND (power) "Power ground", 37 GND (power) "Power ground", 40 PVDD_C (power) "Power supply input for half-bridge C", 41 PVDD_C (power) "Power supply input for half-bridge C", 44 PVDD_B (power) "Power supply input for half-bridge B", 45 PVDD_B (power) "Power supply input for half-bridge B", 48 GND (power) "Power ground", 49 GND (power) "Power ground", 52 PVDD_A (power) "Power supply input for half-bridge A", 53 PVDD_A (power) "Power supply input for half-bridge A", 55 GVDD (power) "Voltage supply to on-chip gate drive and digital supply voltage regulators", 56 GND (power) "Power ground", 57 EP

## TAS5132DDV
designator U?
20 W Stereo Digital Amplifier Power Stage, 0 to 70 degC, 44-pin SOP (TDDV44), Green (RoHS & no Sb/Br); Manufacturer: Texas Instruments; PartNumber: TAS5132DDV; Analog Supply Max [V]: 13.2; Analog Supply Min [V]: 10.8; Input Type: PWM; Max. Number of Speaker Outputs: 4; SubFamily: Mid/High-Power Amplifier; DatasheetVersion: SLES190; PackageVersion: 4206011/G, 06/2011; PackageReference: TDDV44-5375X2375TP; PackageDescription: 44-Pin Plastic Small Outline, Body 6.1 x 14 mm, Pitch 0.635 mm; Supplier 1: Digi-Key; Supplier Part Number 1: 296-21414-5-ND; Supplier 2: Newark; Supplier Part Number 2: 27M0859; Supplier 3: Mouser; Supplier Part Number 3: 595-TAS5132DDV; Eco-Plan: Green (RoHS & no Sb/Br); Mounting Technology: Surface Mount; ComponentLink1Description: Manufacturer URL; ComponentLink1URL: http://www.ti.com/; ComponentLink2Description: Datasheet; ComponentLink2URL: http://www.ti.com/general/docs/lit/getliterature.tsp?genericPartNumber=TAS5132&fileType=pdf; ComponentLink3Description: Package Specification; ComponentLink3URL: http://www.ti.com/lit/ds/symlink/tas5132.pdf
footprint TI-DDV44-5375X2375TP_N (SOP, 44-Leads, Body 14x6.1mm, Pitch 0.635mm, Thermal Pad 5.7x2.7mm, IPC Medium Density)
footprint TI-DDV44-5375X2375TP_L (SOP, 44-Leads, Body 14x6.1mm, Pitch 0.635mm, Thermal Pad 5.7x2.7mm, IPC High Density)
footprint TI-DDV44-5375X2375TP_M (SOP, 44-Leads, Body 14x6.1mm, Pitch 0.635mm, Thermal Pad 5.7x2.7mm, IPC Low Density)
part A pins: 2 ~{OTW} (oc) "Overtemperature warning signal, open-drain, active-low", 5 ~{SD} (oc) "Shutdown signal, open-drain, active-low", 6 PWM_A (in) "Input signal for half-bridge A", 7 ~{RESET_AB} (in) "Reset signal for half-bridge A and half-bridge B, active-low", 8 PWM_B (in) "Input signal for half-bridge B", 9 OC_ADJ (in) "Analog overcurrent programming pin requires resistor to ground", 12 VREG "Digital regulator supply filter pin requires 0.1-uFcapacitor to AGND.", 13 M3 (in) "Mode selection pin", 14 M2 (in) "Mode selection pin", 15 M1 (in) "Mode selection pin", 16 PWM_C (in) "Input signal for half-bridge C", 17 ~{RESET_CD} (in) "Reset signal for half-bridge C and half-bridge D, active-low", 18 PWM_D (in) "Input signal for half-bridge D", 24 BST_D "HS bootstrap supply (BST), external capacitor to OUT_D required", 28 OUT_D (hiz) "Output, half-bridge D", 31 OUT_C (hiz) "Output, half-bridge C", 33 BST_C "HS bootstrap supply (BST), external capacitor to OUT_C required", 34 BST_B "HS bootstrap supply (BST), external capacitor to OUT_B required", 36 OUT_B (hiz) "Output, half-bridge B", 39 OUT_A (hiz) "Output, half-bridge A", 43 BST_A "HS bootstrap supply (BST), external capacitor to OUT_A required"
part B pins: 1 GVDD_B (power) "Gate-drive voltage supply requires 0.1-uFcapacitor to AGND", 10 GND (power) "Ground", 11 AGND (power) "Analog ground", 21 VDD (power) "Power supply for digital voltage regulator requires 0.1-uFcapacitor to GND", 22 GVDD_C (power) "Gate-drive voltage supply requires 0.1-uFcapacitor to AGND", 23 GVDD_D (power) "Gate-drive voltage supply requires 0.1-uFcapacitor to AGND", 26 PVDD_D (power) "Power supply input for half-bridge D requires close decoupling of 0.1-uFcapacitor to GND_D.", 27 PVDD_D (power) "Power supply input for half-bridge D requires close decoupling of 0.1-uFcapacitor to GND_D.", 29 GND_D (power) "Power ground for half-bridge D", 30 GND_C (power) "Power ground for half-bridge C", 32 PVDD_C (power) "Power supply input for half-bridge C requires close decoupling of 0.1-uFcapacitor to GND_C.", 35 PVDD_B (power) "Power supply input for half-bridge B requires close decoupling of 0.1-uFcapacitor to GND_B.", 37 GND_B (power) "Power ground for half-bridge B", 38 GND_A (power) "Power ground for half-bridge A", 40 PVDD_A (power) "Power supply input for half-bridge A requires close decoupling of 0.1-uFcapacitor to GND_A.", 41 PVDD_A (power) "Power supply input for half-bridge A requires close decoupling of 0.1-uFcapacitor to GND_A.", 44 GVDD_A (power) "Gate-drive voltage supply requires 0.1-uFcapacitor to AGND"
part C pins: 3 NC "No connect. Pins may be grounded", 4 NC "No connect. Pins may be grounded", 19 NC "No connect. Pins may be grounded", 20 NC "No connect. Pins may be grounded", 25 NC "No connect. Pins may be grounded", 42 NC "No connect. Pins may be grounded"

## TAS5132DDVG4
designator U?
20 W Stereo Digital Amplifier Power Stage, 0 to 70 degC, 44-pin SOP (TDDV44), Green (RoHS & no Sb/Br); Manufacturer: Texas Instruments; PartNumber: TAS5132DDVG4; Analog Supply Max [V]: 13.2; Analog Supply Min [V]: 10.8; Input Type: PWM; Max. Number of Speaker Outputs: 4; SubFamily: Mid/High-Power Amplifier; DatasheetVersion: SLES190; PackageVersion: 4206011/G, 06/2011; PackageReference: TDDV44-5375X2375TP; PackageDescription: 44-Pin Plastic Small Outline, Body 6.1 x 14 mm, Pitch 0.635 mm; Supplier 1: Digi-Key; Supplier Part Number 1: TAS5132DDVG4-ND; Supplier 2: Mouser; Supplier Part Number 2: 595-TAS5132DDVG4; Eco-Plan: Green (RoHS & no Sb/Br); Mounting Technology: Surface Mount; ComponentLink1Description: Manufacturer URL; ComponentLink1URL: http://www.ti.com/; ComponentLink2Description: Datasheet; ComponentLink2URL: http://www.ti.com/general/docs/lit/getliterature.tsp?genericPartNumber=TAS5132&fileType=pdf; ComponentLink3Description: Package Specification; ComponentLink3URL: http://www.ti.com/lit/ds/symlink/tas5132.pdf
footprint TI-DDV44-5375X2375TP_N (SOP, 44-Leads, Body 14x6.1mm, Pitch 0.635mm, Thermal Pad 5.7x2.7mm, IPC Medium Density)
footprint TI-DDV44-5375X2375TP_L (SOP, 44-Leads, Body 14x6.1mm, Pitch 0.635mm, Thermal Pad 5.7x2.7mm, IPC High Density)
footprint TI-DDV44-5375X2375TP_M (SOP, 44-Leads, Body 14x6.1mm, Pitch 0.635mm, Thermal Pad 5.7x2.7mm, IPC Low Density)
part A pins: 2 ~{OTW} (oc) "Overtemperature warning signal, open-drain, active-low", 5 ~{SD} (oc) "Shutdown signal, open-drain, active-low", 6 PWM_A (in) "Input signal for half-bridge A", 7 ~{RESET_AB} (in) "Reset signal for half-bridge A and half-bridge B, active-low", 8 PWM_B (in) "Input signal for half-bridge B", 9 OC_ADJ (in) "Analog overcurrent programming pin requires resistor to ground", 12 VREG "Digital regulator supply filter pin requires 0.1-uFcapacitor to AGND.", 13 M3 (in) "Mode selection pin", 14 M2 (in) "Mode selection pin", 15 M1 (in) "Mode selection pin", 16 PWM_C (in) "Input signal for half-bridge C", 17 ~{RESET_CD} (in) "Reset signal for half-bridge C and half-bridge D, active-low", 18 PWM_D (in) "Input signal for half-bridge D", 24 BST_D "HS bootstrap supply (BST), external capacitor to OUT_D required", 28 OUT_D (hiz) "Output, half-bridge D", 31 OUT_C (hiz) "Output, half-bridge C", 33 BST_C "HS bootstrap supply (BST), external capacitor to OUT_C required", 34 BST_B "HS bootstrap supply (BST), external capacitor to OUT_B required", 36 OUT_B (hiz) "Output, half-bridge B", 39 OUT_A (hiz) "Output, half-bridge A", 43 BST_A "HS bootstrap supply (BST), external capacitor to OUT_A required"
part B pins: 1 GVDD_B (power) "Gate-drive voltage supply requires 0.1-uFcapacitor to AGND", 10 GND (power) "Ground", 11 AGND (power) "Analog ground", 21 VDD (power) "Power supply for digital voltage regulator requires 0.1-uFcapacitor to GND", 22 GVDD_C (power) "Gate-drive voltage supply requires 0.1-uFcapacitor to AGND", 23 GVDD_D (power) "Gate-drive voltage supply requires 0.1-uFcapacitor to AGND", 26 PVDD_D (power) "Power supply input for half-bridge D requires close decoupling of 0.1-uFcapacitor to GND_D.", 27 PVDD_D (power) "Power supply input for half-bridge D requires close decoupling of 0.1-uFcapacitor to GND_D.", 29 GND_D (power) "Power ground for half-bridge D", 30 GND_C (power) "Power ground for half-bridge C", 32 PVDD_C (power) "Power supply input for half-bridge C requires close decoupling of 0.1-uFcapacitor to GND_C.", 35 PVDD_B (power) "Power supply input for half-bridge B requires close decoupling of 0.1-uFcapacitor to GND_B.", 37 GND_B (power) "Power ground for half-bridge B", 38 GND_A (power) "Power ground for half-bridge A", 40 PVDD_A (power) "Power supply input for half-bridge A requires close decoupling of 0.1-uFcapacitor to GND_A.", 41 PVDD_A (power) "Power supply input for half-bridge A requires close decoupling of 0.1-uFcapacitor to GND_A.", 44 GVDD_A (power) "Gate-drive voltage supply requires 0.1-uFcapacitor to AGND"
part C pins: 3 NC "No connect. Pins may be grounded", 4 NC "No connect. Pins may be grounded", 19 NC "No connect. Pins may be grounded", 20 NC "No connect. Pins may be grounded", 25 NC "No connect. Pins may be grounded", 42 NC "No connect. Pins may be grounded"

## TAS5132DDVR
designator U?
20 W Stereo Digital Amplifier Power Stage, 0 to 70 degC, 44-pin SOP (TDDV44), Green (RoHS & no Sb/Br); Manufacturer: Texas Instruments; PartNumber: TAS5132DDVR; Analog Supply Max [V]: 13.2; Analog Supply Min [V]: 10.8; Input Type: PWM; Max. Number of Speaker Outputs: 4; SubFamily: Mid/High-Power Amplifier; DatasheetVersion: SLES190; PackageVersion: 4206011/G, 06/2011; PackageReference: TDDV44-5375X2375TP; PackageDescription: 44-Pin Plastic Small Outline, Body 6.1 x 14 mm, Pitch 0.635 mm; Supplier 1: Digi-Key; Supplier Part Number 1: TAS5132DDVR-ND; Supplier 2: Mouser; Supplier Part Number 2: 595-TAS5132DDVR; Eco-Plan: Green (RoHS & no Sb/Br); Mounting Technology: Surface Mount; ComponentLink1Description: Manufacturer URL; ComponentLink1URL: http://www.ti.com/; ComponentLink2Description: Datasheet; ComponentLink2URL: http://www.ti.com/general/docs/lit/getliterature.tsp?genericPartNumber=TAS5132&fileType=pdf; ComponentLink3Description: Package Specification; ComponentLink3URL: http://www.ti.com/lit/ds/symlink/tas5132.pdf
footprint TI-DDV44-5375X2375TP_N (SOP, 44-Leads, Body 14x6.1mm, Pitch 0.635mm, Thermal Pad 5.7x2.7mm, IPC Medium Density)
footprint TI-DDV44-5375X2375TP_L (SOP, 44-Leads, Body 14x6.1mm, Pitch 0.635mm, Thermal Pad 5.7x2.7mm, IPC High Density)
footprint TI-DDV44-5375X2375TP_M (SOP, 44-Leads, Body 14x6.1mm, Pitch 0.635mm, Thermal Pad 5.7x2.7mm, IPC Low Density)
part A pins: 2 ~{OTW} (oc) "Overtemperature warning signal, open-drain, active-low", 5 ~{SD} (oc) "Shutdown signal, open-drain, active-low", 6 PWM_A (in) "Input signal for half-bridge A", 7 ~{RESET_AB} (in) "Reset signal for half-bridge A and half-bridge B, active-low", 8 PWM_B (in) "Input signal for half-bridge B", 9 OC_ADJ (in) "Analog overcurrent programming pin requires resistor to ground", 12 VREG "Digital regulator supply filter pin requires 0.1-uFcapacitor to AGND.", 13 M3 (in) "Mode selection pin", 14 M2 (in) "Mode selection pin", 15 M1 (in) "Mode selection pin", 16 PWM_C (in) "Input signal for half-bridge C", 17 ~{RESET_CD} (in) "Reset signal for half-bridge C and half-bridge D, active-low", 18 PWM_D (in) "Input signal for half-bridge D", 24 BST_D "HS bootstrap supply (BST), external capacitor to OUT_D required", 28 OUT_D (hiz) "Output, half-bridge D", 31 OUT_C (hiz) "Output, half-bridge C", 33 BST_C "HS bootstrap supply (BST), external capacitor to OUT_C required", 34 BST_B "HS bootstrap supply (BST), external capacitor to OUT_B required", 36 OUT_B (hiz) "Output, half-bridge B", 39 OUT_A (hiz) "Output, half-bridge A", 43 BST_A "HS bootstrap supply (BST), external capacitor to OUT_A required"
part B pins: 1 GVDD_B (power) "Gate-drive voltage supply requires 0.1-uFcapacitor to AGND", 10 GND (power) "Ground", 11 AGND (power) "Analog ground", 21 VDD (power) "Power supply for digital voltage regulator requires 0.1-uFcapacitor to GND", 22 GVDD_C (power) "Gate-drive voltage supply requires 0.1-uFcapacitor to AGND", 23 GVDD_D (power) "Gate-drive voltage supply requires 0.1-uFcapacitor to AGND", 26 PVDD_D (power) "Power supply input for half-bridge D requires close decoupling of 0.1-uFcapacitor to GND_D.", 27 PVDD_D (power) "Power supply input for half-bridge D requires close decoupling of 0.1-uFcapacitor to GND_D.", 29 GND_D (power) "Power ground for half-bridge D", 30 GND_C (power) "Power ground for half-bridge C", 32 PVDD_C (power) "Power supply input for half-bridge C requires close decoupling of 0.1-uFcapacitor to GND_C.", 35 PVDD_B (power) "Power supply input for half-bridge B requires close decoupling of 0.1-uFcapacitor to GND_B.", 37 GND_B (power) "Power ground for half-bridge B", 38 GND_A (power) "Power ground for half-bridge A", 40 PVDD_A (power) "Power supply input for half-bridge A requires close decoupling of 0.1-uFcapacitor to GND_A.", 41 PVDD_A (power) "Power supply input for half-bridge A requires close decoupling of 0.1-uFcapacitor to GND_A.", 44 GVDD_A (power) "Gate-drive voltage supply requires 0.1-uFcapacitor to AGND"
part C pins: 3 NC "No connect. Pins may be grounded", 4 NC "No connect. Pins may be grounded", 19 NC "No connect. Pins may be grounded", 20 NC "No connect. Pins may be grounded", 25 NC "No connect. Pins may be grounded", 42 NC "No connect. Pins may be grounded"